# Altium schematic symbol library Super_Hornet.SchLib: 120 symbols (part 1 of 5)
Pins are listed as number, name and electrical type; pins without a type are passive.

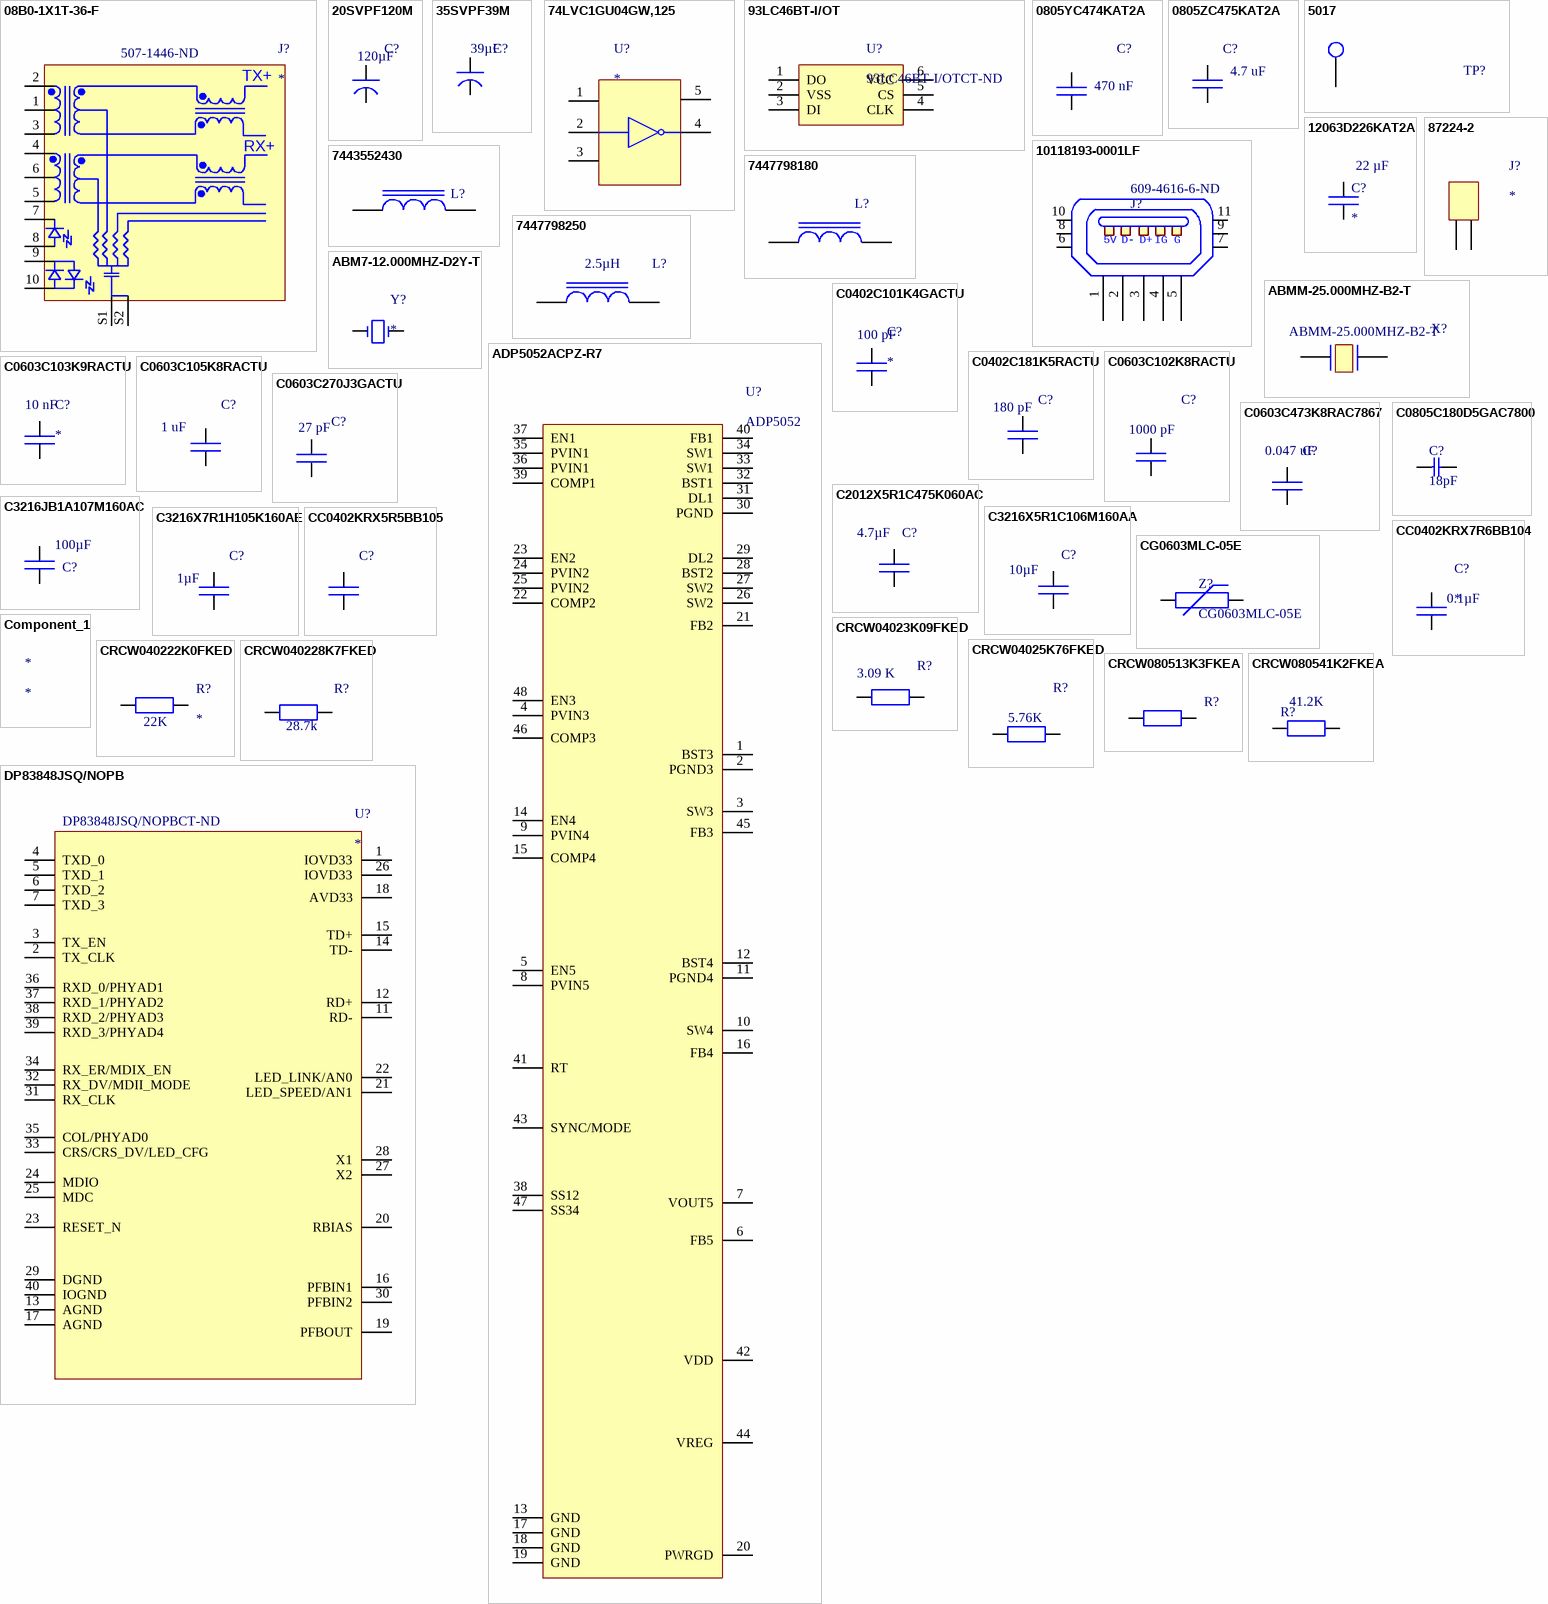
[diagram p0: symbols 08B0-1X1T-36-F to DP83848JSQ/NOPB]

## 08B0-1X1T-36-F
designator J?  Supplier Part Number 1: 507-1446-ND
RJ45 Magjack Connector Through Hole 10/100 Base-T; Manufacturer: Bel; Manufacturer Part Number: 08B0-1X1T-36-F; Product Training Modules: MagJack® Integrated Magnetics Modular Jacks; Catalog Drawings: MagJack ICM; Featured Product: Bel - MagJack Integrated Connector Modules Connectivity Solutions Magnetics Solutions; Number of Ports: 1; LED Color: Green, Orange - Yellow; Number of Cores per Jack: 4; Shielding: Shielded, EMI Finger; Tab Direction: Up; Shield Material: Copper Alloy; Online Catalog: MagJack® Series; Other Names: 08B01X1T36-F  08B01X1T36F  507-1446; Supplier 1: Digi-Key; Stock 1: 3128; Pricing 1: 1=4.88, 10=4.68, 25=4.29, 50=4.095, 100=3.9, 250=3.4125, 500=3.315, 1000=2.8275, 2500=2.6325 (USD); Standard Package: 60; Category: Connectors, Interconnects; Family: Modular Connectors - Jacks With Magnetics; Series: MagJack®; Packaging: Tray; Connector Type: RJ45; Number of Rows: 1; Applications: 10/100 Base-T, AutoMDIX; Mounting Type: Through Hole; Orientation: 90° Angle (Right); Termination: Solder; Height Above Board: 0.531" (13.50mm); Features: Board Guide; Contact Material: -; Contact Finish: Gold; Contact Finish Thickness: 15µin (0.38µm); Housing Material: Polybutylene Terephthalate (PBT); Operating Temperature: -40°C ~ 85°C; ComponentLink1URL: https://www.belfuse.com/resources/ICMs/ICMs Drawings/08B0-1X1T-36-F.pdf?src-supplier=Digi-Key; ComponentLink1Description: https://www.belfuse.com/resources/ICMs/ICMs Drawings/08B0-1X1T-36-F.pdf?src-supplier=Digi-Key; ComponentLink2URL: http://www.belfuse.com/Data/Datasheets/08B0-1X1T-36-F.pdf?src-supplier=Avnet; ComponentLink2Description: http://www.belfuse.com/Data/Datasheets/08B0-1X1T-36-F.pdf?src-supplier=Avnet; ComponentLink3URL: http://www.produktinfo.conrad.com/datenblaetter/1100000-1199999/001196182-da-01-en-MAGJACK_1XRJ45_MIT_LEDS.pdf?src-supplier=Conrad; ComponentLink3Description: http://www.produktinfo.conrad.com/datenblaetter/1100000-1199999/001196182-da-01-en-MAGJACK_1XRJ45_MIT_LEDS.pdf?src-supplier=Conrad
footprint RJ45
pins: 1, 2, 3, 4, 5, 6, 7, 8, 9, 10, S1, S2
text: TX+; RX+

## 20SVPF120M
designator C?  Capacitance: 120µF  (hidden comment: *)
CAP ALUM POLY 120UF 20% 20V SMD; Manufacturer: Panasonic; Manufacturer Part Number: 20SVPF120M; Featured Product: OS-CON Capacitors Hot New Technologies; EDA / CAD Models: Download from Accelerated Designs; ESR (Equivalent Series Resistance): 25 mOhm; Lifetime @ Temp.: 5000 Hrs @ 105°C; Polarization: Polar; Ripple Current: 3.2A; Surface Mount Land Size: 0.260" L x 0.260" W (6.60mm x 6.60mm); Online Catalog: OS-CON, SVPF Series; Other Names: P16498TR; Supplier 1: Digi-Key; Stock 1: 156; Pricing 1: 1=1.29, 10=1.022, 100=0.7662, 500=0.5789 (USD); Standard Package: 1,000; Category: Capacitors; Family: Aluminum - Polymer Capacitors; Series: OS-CON, SVPF; Packaging: Tape & Reel (TR); Tolerance: ±20%; Voltage Rating: 20V; Operating Temperature: -55°C ~ 105°C; Size / Dimension: 0.248" Dia (6.30mm); Height - Seated (Max): 0.236" (6.00mm); Mounting Type: Surface Mount; Package / Case: Radial, Can - SMD; ComponentLink1URL: http://industrial.panasonic.com/cdbs/www-data/pdf/AAB8000/AAB8000C177.pdf?src-supplier=Farnell; ComponentLink1Description: http://industrial.panasonic.com/cdbs/www-data/pdf/AAB8000/AAB8000C177.pdf?src-supplier=Farnell; ComponentLink2URL: http://www.alliedelec.com/images/products/datasheets/bm/Panasonic/70324301.pdf?src-supplier=Allied+Electronics; ComponentLink2Description: http://www.alliedelec.com/images/products/datasheets/bm/Panasonic/70324301.pdf?src-supplier=Allied+Electronics; ComponentLink3URL: http://www.farnell.com/datasheets/1734360.pdf?src-supplier=Element14; ComponentLink3Description: http://www.farnell.com/datasheets/1734360.pdf?src-supplier=Element14; Supplier Part Number 1: P16498CT-ND
footprint Radial C6
pins: 1, 2

## 35SVPF39M
designator C?  Capacitance: 39µF  (hidden comment: *)
CAP ALUM POLY 39UF 20% 35V SMD; Manufacturer: Panasonic; Manufacturer Part Number: 35SVPF39M; Featured Product: OS-CON Capacitors Hot New Technologies; EDA / CAD Models: Download from Accelerated Designs; ESR (Equivalent Series Resistance): 30 mOhm; Lifetime @ Temp.: 5000 Hrs @ 105°C; Polarization: Polar; Ripple Current: 2.8A; Surface Mount Land Size: 0.327" L x 0.327" W (8.30mm x 8.30mm); Online Catalog: OS-CON, SVPF Series; Other Names: P16561TR; Supplier 1: Digi-Key; Stock 1: 6908; Pricing 1: 1=1.51, 10=1.191, 100=0.8935, 500=0.6751 (USD); Standard Package: 1,000; Category: Capacitors; Family: Aluminum - Polymer Capacitors; Series: OS-CON, SVPF; Packaging: Tape & Reel (TR); Tolerance: ±20%; Voltage Rating: 35V; Operating Temperature: -55°C ~ 105°C; Size / Dimension: 0.315" Dia (8.00mm); Height - Seated (Max): 0.276" (7.00mm); Mounting Type: Surface Mount; Package / Case: Radial, Can - SMD; ComponentLink1URL: http://www.mouser.com/ds/2/315/AAB8000C177-947360.pdf?src-supplier=Mouser; ComponentLink1Description: http://www.mouser.com/ds/2/315/AAB8000C177-947360.pdf?src-supplier=Mouser; ComponentLink2URL: http://industrial.panasonic.com/cdbs/www-data/pdf/AAB8000/AAB8000C177.pdf?src-supplier=Element14; ComponentLink2Description: http://industrial.panasonic.com/cdbs/www-data/pdf/AAB8000/AAB8000C177.pdf?src-supplier=Element14; Supplier Part Number 1: P16561CT-ND
footprint Radial E7
pins: 1, 2

## 74LVC1GU04GW,125
designator U?
IC INVERTER 1CH 1-INP 5TSSOP; Manufacturer: Nexperia; Manufacturer Part Number: 74LVC1GU04GW,125; Supplier 1: Digi-Key; Stock 1: 67329; Pricing 1: 1=0.31, 10=0.25, 25=0.2092, 100=0.1324, 250=0.1022, 500=0.0871, 1000=0.0592 (USD); Supplier Part Number 1: 1727-4216-1-ND
footprint SOT-353
pins: 1, 2, 3, 4, 5

## 93LC46BT-I/OT
designator U?, comment 93LC46BT-I/OTCT-ND
IC EEPROM 1K SPI 2MHZ SOT23-6; Manufacturer: Microchip; Capacitance, Input: 7 pF; Current, Input, Leakage: ±1 μA; Current, Operating: 100 μA (Read), 500 μA (Write); Data Retention: <special id="6"/>special id="80"/>200; Interface: 3-Wire; Memory Capacity: 1 kbit; Memory Type: Serial EEPROM; Number of Bits per Word: 16 bit; Operating Voltage Range: 2.5 to 5.5 V; Organization: 64 x 16; Temperature, Operating: -40 to +85 °C; Temperature, Operating, Maximum: +85 °C; Temperature, Operating, Minimum: -40 °C; Time, Access: 100 ns; Type of Interface: Serial-Microwire; Voltage, ESD: ≥4 kV; Voltage, Input, High: 3.5 V; Voltage, Input, Low: 0.5 V; Voltage, Output, High: 2.3 V; Voltage, Output, Low: 0.2 V; Voltage, Programmable: 2.5 V; Supplier 1: Digi-Key; Manufacturer Part Number: 93LC46BT-I/OT; Stock 1: 2115; Pricing 1: 1=0.21, 100=0.1995 (USD); Capacitance, Output: 7 pF; Current, Output, Leakage: ±1 μA; Density: 1K; Dimensions: 3.10 x 1.80 x 1.30 mm; Height: 1.3 mm; Length: 3.1 mm; Mounting Type: Surface Mount; Number of Pins: 6; Package Type: SOT-23; Temperature, Operating, Range: -40 to +85 °C; Time, Address Setup: 100 ns; Voltage, Supply: 2.5 to 5.5 V; Width: 1.8 mm; ComponentLink1URL: http://www.microchip.com/mymicrochip/filehandler.aspx?ddocname=en550232&src-supplier=Digi-Key; ComponentLink1Description: http://www.microchip.com/mymicrochip/filehandler.aspx?ddocname=en550232&src-supplier=Digi-Key; ComponentLink2URL: http://www.farnell.com/datasheets/664718.pdf?src-supplier=Element14; ComponentLink2Description: http://www.farnell.com/datasheets/664718.pdf?src-supplier=Element14; ComponentLink3URL: http://ww1.microchip.com/downloads/en/DeviceDoc/21749J.pdf?src-supplier=Avnet; ComponentLink3Description: http://ww1.microchip.com/downloads/en/DeviceDoc/21749J.pdf?src-supplier=Avnet; ComponentLink4URL: https://www.distrelec.biz/Web/Downloads/_t/ds/93LC46_ABC_eng_tds.pdf?mime=application%2Fpdf&src-supplier=Distrelec; ComponentLink4Description: https://www.distrelec.biz/Web/Downloads/_t/ds/93LC46_ABC_eng_tds.pdf?mime=application%2Fpdf&src-supplier=Distrelec; ComponentLink5URL: http://www.microchip.com/mymicrochip/filehandler.aspx?ddocname=en550232&src-supplier=Future+Electronics; ComponentLink5Description: http://www.microchip.com/mymicrochip/filehandler.aspx?ddocname=en550232&src-supplier=Future+Electronics; ComponentLink6URL: http://www.produktinfo.conrad.com/datenblaetter/1000000-1099999/001085450-da-01-en-IC_EEPROM_1KB_93LC46BT_I_OT_SOT_23_6_MCP.pdf?src-supplier=Conrad; ComponentLink6Description: http://www.produktinfo.conrad.com/datenblaetter/1000000-1099999/001085450-da-01-en-IC_EEPROM_1KB_93LC46BT_I_OT_SOT_23_6_MCP.pdf?src-supplier=Conrad; Supplier Part Number 1: 93LC46BT-I/OTCT-ND
footprint SOT-23-6
pins: 1 DO, 2 VSS, 3 DI, 4 CLK, 5 CS, 6 VCC

## 0805YC474KAT2A
designator C?  Capacitance: 470 nF  (hidden comment: *)
CAP CER 0.47UF 16V X7R 0805; Manufacturer: Kyocera AVX; Manufacturer Part Number: 0805YC474KAT2A; Tolerance (%): ±10 %; Supplier 1: Digi-Key; Stock 1: 203194; Pricing 1: 1=0.25, 10=0.173, 50=0.104, 100=0.0878, 500=0.0601, 1000=0.0531 (USD); Case Size/Dimension: 0805; Dielectric: X7R; Rated Voltage: 16 V; ComponentLink1URL: http://uk.rs-online.com/webdocs/0ed4/0900766b80ed4be2.pdf?src-supplier=RSComponents; ComponentLink1Description: http://uk.rs-online.com/webdocs/0ed4/0900766b80ed4be2.pdf?src-supplier=RSComponents; ComponentLink2URL: http://www.mouser.com/ds/2/40/X7RDielectric-777024.pdf?src-supplier=Mouser; ComponentLink2Description: http://www.mouser.com/ds/2/40/X7RDielectric-777024.pdf?src-supplier=Mouser; ComponentLink3URL: https://www.alliedelec.com/m/d/a24bb5190bea413b2ff164816f55e87c.pdf?src-supplier=Allied+Electronics; ComponentLink3Description: https://www.alliedelec.com/m/d/a24bb5190bea413b2ff164816f55e87c.pdf?src-supplier=Allied+Electronics; ComponentLink4URL: http://www.avx.com/docs/Catalogs/cx7r.pdf?src-supplier=Future+Electronics; ComponentLink4Description: http://www.avx.com/docs/Catalogs/cx7r.pdf?src-supplier=Future+Electronics; ComponentLink5URL: http://www.jameco.com/Jameco/Products/ProdDS/2011221.pdf?src-supplier=Jameco; ComponentLink5Description: http://www.jameco.com/Jameco/Products/ProdDS/2011221.pdf?src-supplier=Jameco; ComponentLink6URL: http://www.avx.com/docs/catalogs/cx7r.pdf?src-supplier=Avnet+Europe; ComponentLink6Description: http://www.avx.com/docs/catalogs/cx7r.pdf?src-supplier=Avnet+Europe; ComponentLink7URL: http://www.avx.com/docs/catalogs/cx7r.pdf?src-supplier=Avnet; ComponentLink7Description: http://www.avx.com/docs/catalogs/cx7r.pdf?src-supplier=Avnet; ComponentLink8URL: http://catalogs.avx.com/SurfaceMount.pdf?src-supplier=Digi-Key; ComponentLink8Description: http://catalogs.avx.com/SurfaceMount.pdf?src-supplier=Digi-Key; ComponentLink9URL: http://datasheets.avx.com/AutoMLCC.pdf?src-supplier=Avnet+Asia; ComponentLink9Description: http://datasheets.avx.com/AutoMLCC.pdf?src-supplier=Avnet+Asia; ComponentLink10URL: http://datasheets.avx.com/X7RDielectric.pdf?src-supplier=Digi-Key; ComponentLink10Description: http://datasheets.avx.com/X7RDielectric.pdf?src-supplier=Digi-Key; ComponentLink11URL: http://avx.com/docs/Catalogs/cx7r.pdf?src-supplier=Element14; ComponentLink11Description: http://avx.com/docs/Catalogs/cx7r.pdf?src-supplier=Element14; Supplier Part Number 1: 478-1403-1-ND
footprint C0805_1
pins: 1, 2

## 0805ZC475KAT2A
designator C?  Capacitance: 4.7 uF  (hidden comment: *)
CAP CER 4.7UF 10V X7R 0805; Manufacturer: Kyocera AVX; Manufacturer Part Number: 0805ZC475KAT2A; Brand: AVX; Case Height: 1.52 mm; Case Length: 2.01 mm; Case Width: 1.25 mm; Dissipation Factor DF: 5; Tolerance: 10 %; Temperature Coefficient / Code: +/- 15 %; Type: Standard X7R MLCCs; Supplier 1: Digi-Key; Stock 1: 60000; Pricing 1: 1=0.61, 10=0.433, 100=0.2852, 500=0.2113, 1000=0.1796 (USD); Case Code - mm: 2012; Dimensions: 1.25 mm W x 2.01 mm L x 1.52 mm H; Dielectric: X7R; Minimum Operating Temperature: - 55 C; Maximum Operating Temperature: + 125 C; Factory Pack Quantity: 3000; Voltage Rating: 10 V; Product Category: Multilayer Ceramic Capacitors MLCC - SMD/SMT; RoHS: Details; Voltage Rating DC: 10 V; Product: General Type MLCCs; Operating Temperature Range: - 55 C to + 125 C; Package / Case: 0805 (2012 metric); Packaging: Reel; Termination Style: SMD/SMT; ComponentLink1URL: http://www.farnell.com/datasheets/2237835.pdf?src-supplier=Element14; ComponentLink1Description: http://www.farnell.com/datasheets/2237835.pdf?src-supplier=Element14; ComponentLink2URL: http://www.mouser.com/ds/2/40/X7RDielectric-777024.pdf?src-supplier=Mouser; ComponentLink2Description: http://www.mouser.com/ds/2/40/X7RDielectric-777024.pdf?src-supplier=Mouser; ComponentLink3URL: http://www.avx.com/docs/catalogs/cx7r.pdf?src-supplier=Avnet; ComponentLink3Description: http://www.avx.com/docs/catalogs/cx7r.pdf?src-supplier=Avnet; ComponentLink4URL: http://avx.com/docs/Catalogs/cx7r.pdf?src-supplier=Element14; ComponentLink4Description: http://avx.com/docs/Catalogs/cx7r.pdf?src-supplier=Element14; ComponentLink5URL: http://www.avx.com/docs/Catalogs/cx7r.pdf?src-supplier=Future+Electronics; ComponentLink5Description: http://www.avx.com/docs/Catalogs/cx7r.pdf?src-supplier=Future+Electronics; ComponentLink6URL: http://datasheets.avx.com/X7RDielectric.pdf?src-supplier=Digi-Key; ComponentLink6Description: http://datasheets.avx.com/X7RDielectric.pdf?src-supplier=Digi-Key; Supplier Part Number 1: 478-7964-6-ND; Case Code - in: 0805
footprint C0805
pins: 1, 2

## 5017
designator TP?  (value not drawn)
PCB MINI TEST POINT; Manufacturer: Keystone Electronics; Manufacturer Part Number: 5017; Minimum Quantity: PC Test Point, Miniature; Dynamic Catalog: Surface Mount Test Points; Featured Product: 5019 Miniature Surface Mount Test Point; Other Names: 5017-ND / 5017KTR / Q5021014; Supplier 1: Digi-Key; Stock 1: 285000; Pricing 1: 5000=0.0924 (USD); Quantity Available: Tape & Reel (TR)Alternate Packaging; RoHS Information: RoHS Compliance Statement; Standard Package: 5,000; Category: Test and Measurement; Family: Test Points; Packaging: Tape & Reel (TR); Type: PC Test Point, Miniature; Terminal: 0.010" (0.25mm) Phosphor Bronze, Silver Plated; Mounting Type: Surface Mount; Material: Phosphor Bronze; Online Catalog: Surface Mount Test Points; ComponentLink1URL: http://www.keyelco.com/product-pdf.cfm?p=1355&src-supplier=Digi-Key; ComponentLink1Description: http://www.keyelco.com/product-pdf.cfm?p=1355&src-supplier=Digi-Key; Supplier Part Number 1: 36-5017TR-NDL
footprint TEST_POINT
pins: 1

## 12063D226KAT2A
designator C?  Capacitance: 22 µF
CAP CER 22UF 25V X5R 1206; Manufacturer: Kyocera AVX; Manufacturer Part Number: 12063D226KAT2A; Tolerance (%): ±10 %; Supplier 1: Digi-Key; Stock 1: 100747; Pricing 1: 1=1.15, 10=0.909, 100=0.6814, 500=0.5148, 1000=0.4543 (USD); Case Size/Dimension: 1206; Dielectric: X5R; Rated Voltage: 25 V; ComponentLink1URL: http://www.avx.com/docs/Catalogs/cx5r.pdf?src-supplier=Future+Electronics; ComponentLink1Description: http://www.avx.com/docs/Catalogs/cx5r.pdf?src-supplier=Future+Electronics; Supplier Part Number 1: 478-9946-1-ND
footprint C1206
pins: 1, 2

## 87224-2
designator J?
CONN HEADER VERT 2POS 2.54MM; Manufacturer: TE Connectivity; Manufacturer Part Number: 87224-2; Catalog Drawings: Single Square Straight Post / Single Square Straight Post Side; Featured Product: AMPMODU Connectors; 3D Model: 87224-2.pdf; Connector Type: Header, Unshrouded; Number of Positions: 2; Number of Positions Loaded: All; Pitch: 0.100" (2.54mm); Dynamic Catalog: AMPMODU Mod II Series; Mating Products: A26921-ND / - CONN HOUSING 2POS .100 LOCKING / A26963-ND / - CONN HOUSING 2POS .100 SINGLE / A3011-ND / - CONN HOUSING 2POS .100 SINGLE; Other Names: 87224-2-ND / A26543; Supplier 1: Digi-Key; Stock 1: 17290; Pricing 1: 1=1.01, 10=0.886, 100=0.7644, 500=0.6254, 1000=0.5559, 5000=0.4864, 10000=0.4621 (USD); RoHS Information: 87224-2 Statement of Compliance; Standard Package: 500; Category: Connectors, Interconnects; Family: Rectangular Connectors - Headers, Male Pins; Series: AMPMODU Mod II; Contact Type: Male Pin; Number of Rows: 1; Contact Mating Length: 0.318" (8.08mm); Mounting Type: Through Hole; Termination: Solder; Contact Finish: Gold; Contact Finish Thickness: 15µin (0.38µm); Color: Black; Packaging: Bulk; ComponentLink1URL: http://www1.futureelectronics.com/doc/TYCO%20ELECTRONICS/87224-2.pdf?src-supplier=Future+Electronics; ComponentLink1Description: http://www1.futureelectronics.com/doc/TYCO%20ELECTRONICS/87224-2.pdf?src-supplier=Future+Electronics; ComponentLink2URL: http://www.te.com/commerce/DocumentDelivery/DDEController?Action=srchrtrv&DocNm=1307819_AMPMODU&DocType=DS&DocLang=English&s_cid=1046&src-supplier=Avnet; ComponentLink2Description: http://www.te.com/commerce/DocumentDelivery/DDEController?Action=srchrtrv&DocNm=1307819_AMPMODU&DocType=DS&DocLang=English&s_cid=1046&src-supplier=Avnet; ComponentLink3URL: http://www.jameco.com/Jameco/Products/ProdDS/1934518.pdf?src-supplier=Jameco; ComponentLink3Description: http://www.jameco.com/Jameco/Products/ProdDS/1934518.pdf?src-supplier=Jameco; ComponentLink4URL: http://www.tycoelectronics.com/commerce/DocumentDelivery/DDEController?Action=srchrtrv&DocNm=1307819_SECTION_5&DocType=Catalog+Section&DocLang=English&src-supplier=Element14; ComponentLink4Description: http://www.tycoelectronics.com/commerce/DocumentDelivery/DDEController?Action=srchrtrv&DocNm=1307819_SECTION_5&DocType=Catalog+Section&DocLang=English&src-supplier=Element14; ComponentLink5URL: http://uk.rs-online.com/webdocs/0fa3/0900766b80fa3622.pdf?src-supplier=RSComponents; ComponentLink5Description: http://uk.rs-online.com/webdocs/0fa3/0900766b80fa3622.pdf?src-supplier=RSComponents; ComponentLink6URL: https://www.te.com/commerce/DocumentDelivery/DDEController?Action=srchrtrv&DocNm=87224&DocType=Customer+Drawing&DocLang=English&src-supplier=Digi-Key; ComponentLink6Description: https://www.te.com/commerce/DocumentDelivery/DDEController?Action=srchrtrv&DocNm=87224&DocType=Customer+Drawing&DocLang=English&src-supplier=Digi-Key; ComponentLink7URL: https://www.alliedelec.com/m/d/7f3d665b792b1bf5eb695b1e5eb12d29.pdf?src-supplier=Allied+Electronics; ComponentLink7Description: https://www.alliedelec.com/m/d/7f3d665b792b1bf5eb695b1e5eb12d29.pdf?src-supplier=Allied+Electronics; Supplier Part Number 1: A26543-ND
footprint HDR_MALE_1x2_2.54mm
pins: 1, 2

## 10118193-0001LF
designator J?  Supplier Part Number 1: 609-4616-6-ND  (hidden comment: *)
CONN USB MICRO B RECPT SMT R/A; Manufacturer: Amphenol FCI; Manufacturer Part Number: 10118193-0001LF; Number of Contacts: 5 Contact; Gender: Female; Current Rating: 1.8 A; Brand: FCI; Connector Type: Micro USB Type B receptacle; Insulation Resistance: 1000 MOhms; Mounting Angle: Right; Supplier 1: Digi-Key; Stock 1: 63390; Pricing 1: 1=0.43, 10=0.405, 25=0.3648, 50=0.3242, 100=0.3107, 250=0.2837, 500=0.2702 (USD); Product Category: USB Connectors; RoHS: Details; Product: Micro USB Type B Connectors; Standard: USB 2.0; Termination Style: SMD/SMT; Color: Black; Contact Material: Copper Alloy; Contact Plating: Gold; Flammability Rating: UL 94 V-0; Operating Temperature Range: - 55 C to + 85 C; Packaging: Reel; Factory Pack Quantity: 1200; ComponentLink1URL: https://cdn.amphenol-icc.com/media/wysiwyg/files/documentation/datasheet/inputoutput/io_usb_micro.pdf?src-supplier=Digi-Key; ComponentLink1Description: https://cdn.amphenol-icc.com/media/wysiwyg/files/documentation/datasheet/inputoutput/io_usb_micro.pdf?src-supplier=Digi-Key; ComponentLink2URL: https://cdn.amphenol-icc.com/media/wysiwyg/files/documentation/datasheet/inputoutput/io_usb_micro.pdf?src-supplier=Arrow; ComponentLink2Description: https://cdn.amphenol-icc.com/media/wysiwyg/files/documentation/datasheet/inputoutput/io_usb_micro.pdf?src-supplier=Arrow; ComponentLink3URL: http://www.amphenol-icc.com/media/wysiwyg/files/drawing/10118193.pdf?src-supplier=Digi-Key; ComponentLink3Description: http://www.amphenol-icc.com/media/wysiwyg/files/drawing/10118193.pdf?src-supplier=Digi-Key; ComponentLink4URL: https://cdn.amphenol-icc.com/media/wysiwyg/files/documentation/datasheet/inputoutput/io_usb_micro.pdf?src-supplier=Verical; ComponentLink4Description: https://cdn.amphenol-icc.com/media/wysiwyg/files/documentation/datasheet/inputoutput/io_usb_micro.pdf?src-supplier=Verical; ComponentLink5URL: https://cdn.amphenol-icc.com/media/wysiwyg/files/documentation/datasheet/inputoutput/io_usb_micro.pdf?src-supplier=Allied+Electronics; ComponentLink5Description: https://cdn.amphenol-icc.com/media/wysiwyg/files/documentation/datasheet/inputoutput/io_usb_micro.pdf?src-supplier=Allied+Electronics; ComponentLink6URL: https://cdn.amphenol-icc.com/media/wysiwyg/files/documentation/datasheet/inputoutput/io_usb_micro.pdf?src-supplier=Mouser; ComponentLink6Description: https://cdn.amphenol-icc.com/media/wysiwyg/files/documentation/datasheet/inputoutput/io_usb_micro.pdf?src-supplier=Mouser
footprint USB_MICRO - duplicate
pins: 1, 2, 3, 4, 5, 6, 7, 8, 9, 10, 11
text: 5V; D-; D+; IG; G

## 7443552430
designator L?  (value not drawn)
IND 4.3UH 8A 14.1 MOHM; Manufacturer: Wurth Electronics; Manufacturer Part Number: 7443552430; Catalog Drawings: 7443552 Series Top 7443552 Series Side 7443552 Series Bottom; Design Resources: Spice Model Library; Featured Product: Flat Wire High Current Inductors WE-HCI – SMD Flat Wire High Current Inductor; 3D Model: WE-HCI_1040_7443552.igs WE-HCI_1040_7443552.stp; Type: Wirewound; Inductance: 4.3µH; Tolerance: ±20%; Shielding: Shielded; Frequency - Self Resonant: 33MHz; Frequency - Test: 100kHz; Online Catalog: WE-HCI Series; Kits: 732-1921-ND / - KIT INDUCTOR HC/HCA SMALL SIZES; Related Products: 122-1853-ND / - IC SOC CORTEX-A9 ARTIX-7 225BGA / 122-1852-ND / - IC SOC CORTEX-A9 ARTIX-7 400BGA / 122-1963-ND / - IC SOC CORTEX-A9 ARTIX-7 400BGA / 122-1855-ND / - IC SOC CORTEX-A9 ARTIX-7 225BGA / 122-1854-ND / - IC SOC CORTEX-A9 ARTIX-7 400BGA / 497-8821-2-ND / - IC REG BUCK ADJ 4A SYNC 16HTSSOP / 497-8821-1-ND / - IC REG BUCK ADJ 4A SYNC 16HTSSOP / 497-8821-6-ND / - IC REG BUCK ADJ 4A SYNC 16HTSSOP / L5989D-ND / - IC REG BUCK ADJ 4A SYNC 16HTSSOP / XC7Z010-1CLG225I-ND / - IC SOC CORTEX-A9 ARTIX-7 225BGA / XC7Z010-2CLG225E-ND / - IC SOC CORTEX-A9 ARTIX-7 225BGA / XC7Z010-2CLG400E-ND / - IC SOC CORTEX-A9 ARTIX-7 400BGA / XC7Z010-3CLG225E-ND / - IC SOC CORTEX-A9 ARTIX-7 225BGA / XC7Z010-3CLG400E-ND / - IC SOC CORTEX-A9 ARTIX-7 400BGA; Other Names: 732-1136-1; Supplier 1: Digi-Key; Stock 1: 1440; Pricing 1: 1=2.67, 10=2.621, 50=2.419, 100=2.318 (USD); Standard Package: 1; Category: Inductors, Coils, Chokes; Family: Fixed Inductors; Series: WE-HCI; Packaging: Cut Tape (CT); Current Rating: 8A; Current - Saturation: 8A; DC Resistance (DCR): 14.1 mOhm; Operating Temperature: -40°C ~ 155°C; Mounting Type: Surface Mount; Package / Case: Nonstandard; Size / Dimension: 0.413" L x 0.402" W (10.50mm x 10.20mm); Height - Seated (Max): 0.165" (4.20mm); ComponentLink1URL: https://katalog.we-online.de/pbs/datasheet/7443552430.pdf?src-supplier=Digi-Key; ComponentLink1Description: https://katalog.we-online.de/pbs/datasheet/7443552430.pdf?src-supplier=Digi-Key; ComponentLink2URL: http://documents.rs-components.com/techlib://itc_doclist_GB.htm?stockno=7362080&src-supplier=RSComponents; ComponentLink2Description: http://documents.rs-components.com/techlib://itc_doclist_GB.htm?stockno=7362080&src-supplier=RSComponents; ComponentLink3URL: http://www.farnell.com/datasheets/1735722.pdf?src-supplier=Element14; ComponentLink3Description: http://www.farnell.com/datasheets/1735722.pdf?src-supplier=Element14; ComponentLink4URL: https://www.distrelec.biz/Web/Downloads/a_/de/np7443552430_data_DE.pdf?mime=application%2Fpdf&src-supplier=Distrelec; ComponentLink4Description: https://www.distrelec.biz/Web/Downloads/a_/de/np7443552430_data_DE.pdf?mime=application%2Fpdf&src-supplier=Distrelec; ComponentLink5URL: http://www.mouser.com/ds/2/445/7443552430-538587.pdf?src-supplier=Mouser; ComponentLink5Description: http://www.mouser.com/ds/2/445/7443552430-538587.pdf?src-supplier=Mouser; Supplier Part Number 1: 732-1136-1-ND
footprint 14.3uH_10_2mmX10_2mmX4mm
pins: 1, 2

## 7447798180
designator L?
IND 1.8UH 14.5A 4.5MOHM; Manufacturer: Wurth Electronics; Manufacturer Part Number: 7447798180; Product Training Modules: High Current Inductors with Flatwire Technology for Low Wire Losses; Catalog Drawings: 744779 Series Bottom 744779 Series Top 744779 Series_6.4mm Height-Side; Design Resources: Spice Model Library; 3D Model: 7447798zzz.igs 7447798zzz.stp; Type: Wirewound; Material - Core: Metal Composite; Inductance: 1.8µH; Tolerance: ±30%; Current - Saturation: 12.8A; Shielding: Shielded; DC Resistance (DCR): 4.5 mOhm Max; Frequency - Self Resonant: 74MHz; Frequency - Test: 100kHz; Related Products: MAX15303AA00+TCM-ND / - IC REG BUCK ADJ 6A SYNC 40TQFN / MAX15303AA00+CM-ND / - IC REG BUCK ADJ 6A SYNC 40TQFN; Other Names: 732-2413-2; Supplier 1: Digi-Key; Stock 1: 500; Pricing 1: 1=3.34, 10=3.086, 50=2.979, 100=2.873, 250=2.554 (USD); Standard Package: 500; Category: Inductors, Coils, Chokes; Family: Fixed Inductors; Series: WE-PDF; Packaging: Tape & Reel (TR); Current Rating: 14.5A; Operating Temperature: -40°C ~ 150°C; Mounting Type: Surface Mount; Package / Case: Nonstandard; Size / Dimension: 0.402" L x 0.402" W (10.20mm x 10.20mm); Height - Seated (Max): 0.252" (6.40mm); ComponentLink1URL: http://www.mouser.com/ds/2/445/7447798180-539039.pdf?src-supplier=Mouser; ComponentLink1Description: http://www.mouser.com/ds/2/445/7447798180-539039.pdf?src-supplier=Mouser; ComponentLink2URL: http://www.farnell.com/datasheets/1736562.pdf?src-supplier=Farnell; ComponentLink2Description: http://www.farnell.com/datasheets/1736562.pdf?src-supplier=Farnell; ComponentLink3URL: http://katalog.we-online.de/pbs/datasheet/7447798180.pdf?src-supplier=Digi-Key; ComponentLink3Description: http://katalog.we-online.de/pbs/datasheet/7447798180.pdf?src-supplier=Digi-Key; ComponentLink4URL: http://www.farnell.com/datasheets/1736562.pdf?src-supplier=Element14; ComponentLink4Description: http://www.farnell.com/datasheets/1736562.pdf?src-supplier=Element14; Supplier Part Number 1: 732-2413-1-ND
footprint 1.8UH_10_2MMX10_2MM
pins: 1, 2

## 7447798250
designator L?  Inductance: 2.5µH  (hidden comment: *)
IND 2.5UH 13.7A 4.95 MOHM; Manufacturer: Wurth Electronics; Manufacturer Part Number: 7447798250; Product Training Modules: High Current Inductors with Flatwire Technology for Low Wire Losses; Catalog Drawings: 744779 Series Bottom 744779 Series Top 744779 Series_6.4mm Height-Side; Design Resources: Spice Model Library; 3D Model: 7447798zzz.igs 7447798zzz.stp; Type: Wirewound; Material - Core: Metal Composite; Tolerance: ±30%; Current - Saturation: 10.1A; Shielding: Shielded; DC Resistance (DCR): 4.95 mOhm Max; Frequency - Self Resonant: 57MHz; Frequency - Test: 100kHz; Online Catalog: WE-PDF Series; Related Products: NCP3170ADR2GOSTR-ND / - IC REG BUCK ADJ 3A SYNC 8SOIC / NCP3170ADR2GOSCT-ND / - IC REG BUCK ADJ 3A SYNC 8SOIC / NCP3170ADR2GOSDKR-ND / - IC REG BUCK ADJ 3A SYNC 8SOIC / NCP3170BDR2GOSTR-ND / - IC REG BUCK ADJ 3A SYNC 8SOIC / NCP3170BDR2GOSCT-ND / - IC REG BUCK ADJ 3A SYNC 8SOIC / NCP3170BDR2GOSDKR-ND / - IC REG BUCK ADJ 3A SYNC 8SOIC; Other Names: 732-2418-6; Supplier 1: Digi-Key; Stock 1: 78; Pricing 1: 1=3.34, 10=3.086, 50=2.979, 100=2.873, 250=2.554 (USD); Standard Package: 1; Category: Inductors, Coils, Chokes; Family: Fixed Inductors; Series: WE-PDF; Packaging: Digi-Reel®; Current Rating: 13.7A; Operating Temperature: -40°C ~ 150°C; Mounting Type: Surface Mount; Package / Case: Nonstandard; Size / Dimension: 0.402" L x 0.402" W (10.20mm x 10.20mm); Height - Seated (Max): 0.252" (6.40mm); ComponentLink1URL: https://katalog.we-online.de/pbs/datasheet/7447798250.pdf?src-supplier=Digi-Key; ComponentLink1Description: https://katalog.we-online.de/pbs/datasheet/7447798250.pdf?src-supplier=Digi-Key; ComponentLink2URL: http://katalog.we-online.de/pbs/datasheet/7447798250.pdf?src-supplier=Digi-Key; ComponentLink2Description: http://katalog.we-online.de/pbs/datasheet/7447798250.pdf?src-supplier=Digi-Key; ComponentLink3URL: http://www.mouser.com/ds/2/445/7447798250-539040.pdf?src-supplier=Mouser; ComponentLink3Description: http://www.mouser.com/ds/2/445/7447798250-539040.pdf?src-supplier=Mouser; ComponentLink4URL: http://documents.rs-components.com/techlib://itc_doclist_GB.htm?stockno=7444965&src-supplier=RSComponents; ComponentLink4Description: http://documents.rs-components.com/techlib://itc_doclist_GB.htm?stockno=7444965&src-supplier=RSComponents; ComponentLink5URL: http://www.farnell.com/datasheets/1915042.pdf?src-supplier=Farnell; ComponentLink5Description: http://www.farnell.com/datasheets/1915042.pdf?src-supplier=Farnell; Supplier Part Number 1: 732-2418-1-ND
footprint 2.5UH_10_2MMX10_2MM
pins: 1, 2

## ABM7-12.000MHZ-D2Y-T
designator Y?
CRYSTAL 12.0000MHZ 18PF SMD; Manufacturer: Abracon; Manufacturer Part Number: ABM7-12.000MHZ-D2Y-T; Standard Frequency: 12 MHz; Frequency Tolerance: ±20 ppm; Frequency Stability: ±30 ppm; Series Resistance: 60 Ohm; Frequency Aging: ±5 ppm/Year; Mode of Oscillation: Fundamental; Rad Hard: No; Supplier 1: Digi-Key; Stock 1: 71692; Pricing 1: 1=1, 10=0.886, 50=0.8278, 100=0.7315, 500=0.693 (USD); Package: 2CSMD; Packaging: Tape & Reel; Load Capacitance: 18 pF; Type: Crystal; Maximum Operating Temperature: 85 °C; Minimum Operating Temperature: -40 °C; Mounting: Surface Mount; Category: Crystals; ComponentLink1URL: http://www.farnell.com/datasheets/947971.pdf?src-supplier=Element14; ComponentLink1Description: http://www.farnell.com/datasheets/947971.pdf?src-supplier=Element14; ComponentLink2URL: http://www.mouser.com/ds/2/3/abm7-19096.pdf?src-supplier=Mouser; ComponentLink2Description: http://www.mouser.com/ds/2/3/abm7-19096.pdf?src-supplier=Mouser; ComponentLink3URL: https://www.verical.com/server-webapp/html/getDatasheet?partID=728583&src-supplier=Verical; ComponentLink3Description: https://www.verical.com/server-webapp/html/getDatasheet?partID=728583&src-supplier=Verical; ComponentLink4URL: https://abracon.com/Resonators/abm7.pdf?src-supplier=Digi-Key; ComponentLink4Description: https://abracon.com/Resonators/abm7.pdf?src-supplier=Digi-Key; Supplier Part Number 1: 535-9836-1-ND
footprint ABM7_Crystal
pins: 1, 2

## ABMM-25.000MHZ-B2-T
designator X?  Manufacturer Part Number: ABMM-25.000MHZ-B2-T  (hidden comment: *)
CRYSTAL 25MHZ; Manufacturer: Abracon; Case Height: 1.3 mm; Case Length: 7 mm; Case Width: 5 mm; ESR: 40 Ohms; Frequency Stability: 50 PPM; Load Capacitance: 18 pF; Tolerance: 20 PPM; Supplier 1: Digi-Key; Stock 1: 6735; Pricing 1: 1=0.92, 10=0.81, 50=0.7568, 100=0.6688, 500=0.6336 (USD); Brand: ABRACON; Dimensions: 5 mm W x 7 mm L x 1.3 mm H; Frequency: 25 MHz; Package / Case: 7 mm x 5 mm; Operating Temperature Range: - 20 C to + 70 C; Mounting Style: SMD/SMT; Factory Pack Quantity: 1000; Product Category: Crystals; RoHS: Details; Termination Style: SMD/SMT; Packaging: Reel; Series: ABMM; Type: Ceramic Microprocessor Crystal; ComponentLink1URL: https://abracon.com/Resonators/ABMM.pdf?src-supplier=Digi-Key; ComponentLink1Description: https://abracon.com/Resonators/ABMM.pdf?src-supplier=Digi-Key; ComponentLink2URL: http://www.farnell.com/datasheets/1750519.pdf?src-supplier=Element14; ComponentLink2Description: http://www.farnell.com/datasheets/1750519.pdf?src-supplier=Element14; ComponentLink3URL: http://www.mouser.com/ds/2/3/ABMM-40073.pdf?src-supplier=Mouser; ComponentLink3Description: http://www.mouser.com/ds/2/3/ABMM-40073.pdf?src-supplier=Mouser; Supplier Part Number 1: 535-9161-1-ND
footprint CRYSTAL
pins: 1, 3

## ADP5052ACPZ-R7
designator U?, comment ADP5052
PMIC 4BUCK_1LDO; Manufacturer: Analog Devices; Manufacturer Part Number: ADP5052ACPZ-R7; Minimum Quantity: Step-Down (Buck) Synchronous (5), Linear (LDO) (1); Dynamic Catalog: Linear + Switching; Featured Product: 2nd Quarter Select Products; PCN Design/Specification: ADP5050/ADP5052 Die Revision 06/Jan/2014; PCN Assembly/Origin: Assembly and Test Transfer LFCSP Devices 22/Oct/2013 / Assembly/Test Site Revision D 06/Aug/2014; Topology: Step-Down (Buck) Synchronous (4), Linear (LDO) (1); Function: Any Function; Number of Outputs: 5; Frequency - Switching: 740kHz; Voltage/Current - Output 1: 0.85 V ~ 1.6 V, PROG; Voltage/Current - Output 2: 3.3 V ~ 5 V, PROG; Voltage/Current - Output 3: 1.2 V ~ 1.8 V, 1.2A; w/LED Driver: No; Voltage - Supply: 4.5 V ~ 15 V; For Use With: ADP5052-EVALZ-ND / - EVAL BOARD BUCK REG/LDO ADP5052; Other Names: ADP5052ACPZ-R7CT; Resistor Element Type: Thick Film; Product Range: PANASONIC - ERJ Series; Resistance: 3.65kohm; Power Rating: 100mW; Resistance Tolerance: ± 1%; Resistor Case Style: 0402 [1005 Metric]; Temperature Coefficient: ± 100ppm/°C; Voltage Rating: 50V; SVHC: Diboron trioxide (19-Dec-2012); Resistor Mounting: SMD; Resistor Terminals: Wraparound; SVHC (Secondary): Lead monoxide (lead oxide) (19-Dec-2012); Supplier 1: Digi-Key; Stock 1: 0; Pricing 1: 1=8.54, 10=7.719, 25=7.3596, 100=6.103, 250=5.5645 (USD); Quantity Available: Cut Tape (CT)Alternate Packaging; Package/Case: 48-WFQFN Exposed Pad, CSP; Standard Package: 1; Category: Integrated Circuits (ICs); Family: PMIC - Voltage Regulators - Linear + Switching; Packaging: Cut Tape (CT); w/Supervisor: No; w/Sequencer: No; Operating Temperature: -40°C ~ 125°C; Mounting Type: Surface Mount; Package / Case: 48-WFQFN Exposed Pad, CSP; Supplier Device Package: 48-LFCSP-WQ (7x7); Online Catalog: Linear + Switching; ComponentLink1URL: http://www.mouser.com/ds/2/609/ADP5052-878958.pdf?src-supplier=Mouser; ComponentLink1Description: http://www.mouser.com/ds/2/609/ADP5052-878958.pdf?src-supplier=Mouser; ComponentLink2URL: http://uk.rs-online.com/webdocs/1492/0900766b81492551.pdf?src-supplier=RSComponents; ComponentLink2Description: http://uk.rs-online.com/webdocs/1492/0900766b81492551.pdf?src-supplier=RSComponents; ComponentLink3URL: http://www.analog.com/media/en/technical-documentation/data-sheets/ADP5052.PDF?src-supplier=Digi-Key; ComponentLink3Description: http://www.analog.com/media/en/technical-documentation/data-sheets/ADP5052.PDF?src-supplier=Digi-Key; ComponentLink4URL: http://www.analog.com/static/imported-files/data_sheets/ADP5052.PDF?src-supplier=Avnet; ComponentLink4Description: http://www.analog.com/static/imported-files/data_sheets/ADP5052.PDF?src-supplier=Avnet; ComponentLink5URL: https://www.analog.com/media/en/technical-documentation/data-sheets/ADP5052.PDF?src-supplier=Digi-Key; ComponentLink5Description: https://www.analog.com/media/en/technical-documentation/data-sheets/ADP5052.PDF?src-supplier=Digi-Key; ComponentLink6URL: http://www.produktinfo.conrad.com/datenblaetter/1200000-1299999/001251707-da-01-en-IC_REG_5OUT_ADP5052ACPZ_R7_LFCSP_48_ADI.pdf?src-supplier=Conrad; ComponentLink6Description: http://www.produktinfo.conrad.com/datenblaetter/1200000-1299999/001251707-da-01-en-IC_REG_5OUT_ADP5052ACPZ_R7_LFCSP_48_ADI.pdf?src-supplier=Conrad; Supplier Part Number 1: ADP5052ACPZ-R7CT-ND; Supplier 2: Digi-Key; Stock 2: 78045; Pricing 2: 1=0.1, 10=0.041, 100=0.0166, 1000=0.0075, 2500=0.0065, 5000=0.0054 (USD); Resistor Element Material: Thick Film; MSL: (Not Applicable); ComponentLink7URL: http://industrial.panasonic.com/www-data/pdf/AOA0000/AOA0000CE2.pdf?src-supplier=Avnet; ComponentLink7Description: http://industrial.panasonic.com/www-data/pdf/AOA0000/AOA0000CE2.pdf?src-supplier=Avnet; ComponentLink8URL: http://www.mouser.com/ds/2/315/AOA0000C283-1093288.pdf?src-supplier=Mouser; ComponentLink8Description: http://www.mouser.com/ds/2/315/AOA0000C283-1093288.pdf?src-supplier=Mouser; ComponentLink9URL: http://www.farnell.com/datasheets/1694929.pdf?src-supplier=Element14; ComponentLink9Description: http://www.farnell.com/datasheets/1694929.pdf?src-supplier=Element14; ComponentLink10URL: https://www.alliedelec.com/m/d/623f45ff1957d936ff56d46fd1c28cac.pdf?src-supplier=Allied+Electronics; ComponentLink10Description: https://www.alliedelec.com/m/d/623f45ff1957d936ff56d46fd1c28cac.pdf?src-supplier=Allied+Electronics; ComponentLink11URL: http://www.farnell.com/datasheets/1678782.pdf?src-supplier=Element14; ComponentLink11Description: http://www.farnell.com/datasheets/1678782.pdf?src-supplier=Element14; Supplier Part Number 2: P3.65KLCT-ND
footprint 48-LFSCP
pins: 1 BST3, 2 PGND3, 3 SW3, 4 PVIN3, 5 EN5, 6 FB5, 7 VOUT5, 8 PVIN5, 9 PVIN4, 10 SW4, 11 PGND4, 12 BST4, 13 GND, 14 EN4, 15 COMP4, 16 FB4, 17 GND, 18 GND, 19 GND, 20 PWRGD, 21 FB2, 22 COMP2, 23 EN2, 24 PVIN2, 25 PVIN2, 26 SW2, 27 SW2, 28 BST2, 29 DL2, 30 PGND, 31 DL1, 32 BST1, 33 SW1, 34 SW1, 35 PVIN1, 36 PVIN1, 37 EN1, 38 SS12, 39 COMP1, 40 FB1, 41 RT, 42 VDD, 43 SYNC/MODE, 44 VREG, 45 FB3, 46 COMP3, 47 SS34, 48 EN3

## C0402C101K4GACTU
designator C?  Capacitance: 100 pF
CAP CER 100PF 16V C0G/NP0 0402; Manufacturer: KEMET; Manufacturer Part Number: C0402C101K4GACTU; Part # Aliases: C0402C101K4GAC7867; Capacitance - nF: 0.1 nF; Case Height: 0.5 mm; Dielectric: C0G (NP0); Case Length: 1 mm; Class: Class 1; Dissipation Factor DF: 0.1; Tolerance: 10 %; Temperature Coefficient / Code: +/- 30 PPM / C; Type: SMD MLCC C0G 10 - 250 VDC Commercial Grade; Supplier 1: Digi-Key; Stock 1: 105221; Pricing 1: 1=0.1, 10=0.025, 100=0.0112, 500=0.008, 1000=0.0063, 2500=0.0057, 5000=0.0052 (USD); Brand: Kemet; Case Code - in: 0402; Case Code - mm: 1005; Dimensions: 0.5 mm W x 1 mm L x 0.5 mm H; Case Width: 0.5 mm; Lead Spacing: 0.3 mm; Factory Pack Quantity: 10000; Voltage Rating: 16 V; Product Category: Multilayer Ceramic Capacitors MLCC - SMD/SMT; RoHS: Details; Minimum Operating Temperature: - 55 C; Maximum Operating Temperature: + 125 C; Product: General Type MLCCs; Operating Temperature Range: - 55 C to + 125 C; Package / Case: 0402 (1005 metric); Packaging: Reel; Series: C0402C; Termination Style: SMD/SMT; Voltage Rating DC: 16 V; ComponentLink1URL: http://www.mouser.com/ds/2/212/KEM_C1003_C0G_SMD-1101588.pdf?src-supplier=Mouser; ComponentLink1Description: http://www.mouser.com/ds/2/212/KEM_C1003_C0G_SMD-1101588.pdf?src-supplier=Mouser; Supplier Part Number 1: 399-7749-1-ND
footprint R0402
pins: 1, 2

## C0402C181K5RACTU
designator C?  Capacitance: 180 pF  (hidden comment: *)
CAP CER 180PF 50V X7R 0402; Manufacturer: KEMET; Manufacturer Part Number: C0402C181K5RACTU; Part # Aliases: C0402C181K5RAC7867; Capacitance - nF: 0.18 nF; Case Height: 0.5 mm; Case Length: 1 mm; Class: Class 1; Dissipation Factor DF: 2.5; Tolerance: 10 %; Temperature Coefficient / Code: +/- 15 %; Type: SMD MLCC X7R 6.3 - 250 VDC Commerical Grade; Supplier 1: Digi-Key; Stock 1: 45526; Pricing 1: 1=0.1, 10=0.068, 100=0.0304, 500=0.0217, 1000=0.0171, 2500=0.0155, 5000=0.0143 (USD); Brand: Kemet; Case Code - in: 0402; Case Code - mm: 1005; Dimensions: 0.5 mm W x 1 mm L x 0.5 mm H; Dielectric: X7R; Case Width: 0.5 mm; Lead Spacing: 0.3 mm; Factory Pack Quantity: 10000; Voltage Rating: 50 V; Product Category: Multilayer Ceramic Capacitors MLCC - SMD/SMT; RoHS: Details; Minimum Operating Temperature: - 55 C; Maximum Operating Temperature: + 125 C; Product: General Type MLCCs; Operating Temperature Range: - 55 C to + 125 C; Package / Case: 0402 (1005 metric); Packaging: Reel; Series: C0402C; Termination Style: SMD/SMT; Voltage Rating DC: 50 V; ComponentLink1URL: http://www.farnell.com/datasheets/1807957.pdf?src-supplier=Element14; ComponentLink1Description: http://www.farnell.com/datasheets/1807957.pdf?src-supplier=Element14; ComponentLink2URL: http://www.farnell.com/datasheets/1851736.pdf?src-supplier=Element14; ComponentLink2Description: http://www.farnell.com/datasheets/1851736.pdf?src-supplier=Element14; Supplier Part Number 1: 399-15305-1-ND
footprint R0402
pins: 1, 2

## C0603C102K8RACTU
designator C?  Capacitance: 1000 pF  (hidden comment: *)
CAP CER 1000PF 10V X7R 0603; Manufacturer: KEMET; Manufacturer Part Number: C0603C102K8RACTU; Part # Aliases: C0603C102K8RAC7867; Capacitance - nF: 1 nF; Capacitance - uF: 0.001 uF; Case Height: 0.8 mm; Case Length: 1.6 mm; Class: Class 1; Dissipation Factor DF: 10; Tolerance: 10 %; Temperature Coefficient / Code: +/- 15 %; Type: SMD MLCC X7R 6.3 - 250 VDC Commerical Grade; Supplier 1: Digi-Key; Stock 1: 49712; Pricing 1: 1=0.21, 10=0.14, 100=0.0711, 500=0.0486, 1000=0.043 (USD); Brand: Kemet; Case Code - in: 0603; Case Code - mm: 1608; Dimensions: 0.8 mm W x 1.6 mm L x 0.8 mm H; Dielectric: X7R; Case Width: 0.8 mm; Factory Pack Quantity: 4000; Product Category: Multilayer Ceramic Capacitors MLCC - SMD/SMT; RoHS: Details; Minimum Operating Temperature: - 55 C; Maximum Operating Temperature: + 125 C; Product: General Type MLCCs; Lead Spacing: 0.7 mm; Operating Temperature Range: - 55 C to + 125 C; Package / Case: 0603 (1608 metric); Packaging: Reel; Series: C0603C; Termination Style: SMD/SMT; Voltage Rating: 10 V; Voltage Rating DC: 10 V; ComponentLink1URL: http://www.mouser.com/ds/2/212/KEM_C1002_X7R_SMD-1102033.pdf?src-supplier=Mouser; ComponentLink1Description: http://www.mouser.com/ds/2/212/KEM_C1002_X7R_SMD-1102033.pdf?src-supplier=Mouser; Supplier Part Number 1: 399-8984-1-ND
footprint C0603_1
pins: 1, 2

## C0603C103K9RACTU
designator C?  Capacitance - nF: 10 nF
CAP CER 10000PF 6.3V X7R 0603; Manufacturer: KEMET; Manufacturer Part Number: C0603C103K9RACTU; Part # Aliases: C0603C103K9RAC7867; Capacitance: 0.01 uF; Case Height: 0.8 mm; Case Length: 1.6 mm; Class: Class 1; Dissipation Factor DF: 5; Tolerance: 10 %; Temperature Coefficient / Code: +/- 15 %; Type: SMD MLCC X7R 6.3 - 250 VDC Commerical Grade; Supplier 1: Digi-Key; Stock 1: 36311; Pricing 1: 1=0.12, 10=0.083, 100=0.0391, 500=0.0274, 1000=0.0227 (USD); Brand: Kemet; Capacitance - pF: 10000 pF; Case Code - in: 0603; Case Code - mm: 1608; Dimensions: 0.8 mm W x 1.6 mm L x 0.8 mm H; Dielectric: X7R; Case Width: 0.8 mm; Factory Pack Quantity: 4000; Voltage Rating: 6.3 V; Product Category: Multilayer Ceramic Capacitors MLCC - SMD/SMT; RoHS: Details; Minimum Operating Temperature: - 55 C; Maximum Operating Temperature: + 125 C; Product: General Type MLCCs; Operating Temperature Range: - 55 C to + 125 C; Package / Case: 0603 (1608 metric); Packaging: Reel; Series: C0603C; Termination Style: SMD/SMT; Voltage Rating DC: 6.3 V; ComponentLink1URL: http://www.mouser.com/ds/2/212/KEM_C1002_X7R_SMD-1102033.pdf?src-supplier=Mouser; ComponentLink1Description: http://www.mouser.com/ds/2/212/KEM_C1002_X7R_SMD-1102033.pdf?src-supplier=Mouser; Supplier Part Number 1: 399-8988-1-ND
footprint C0603_1
pins: 1, 2

## C0603C105K8RACTU
designator C?  Capacitance: 1 uF  (hidden comment: *)
CAP CER 1UF 10V X7R 0603; Manufacturer: KEMET; Manufacturer Part Number: C0603C105K8RACTU; Part # Aliases: C0603C105K8RAC7867; Capacitance - nF: 1000 nF; Case Height: 0.8 mm; Case Length: 1.6 mm; Class: Class 1; Dissipation Factor DF: 5; Tolerance: 10 %; Temperature Coefficient / Code: +/- 15 %; Type: SMD MLCC X7R 6.3 - 250 VDC Commerical Grade; Supplier 1: Digi-Key; Stock 1: 413031; Pricing 1: 1=0.1, 10=0.064, 100=0.0285, 500=0.0204, 1000=0.016 (USD); Brand: Kemet; Case Code - in: 0603; Case Code - mm: 1608; Dimensions: 0.8 mm W x 1.6 mm L x 0.8 mm H; Dielectric: X7R; Case Width: 0.8 mm; Factory Pack Quantity: 4000; Voltage Rating: 10 V; Product Category: Multilayer Ceramic Capacitors MLCC - SMD/SMT; RoHS: Details; Voltage Rating DC: 10 V; Minimum Operating Temperature: - 55 C; Maximum Operating Temperature: + 125 C; Product: General Type MLCCs; Operating Temperature Range: - 55 C to + 125 C; Package / Case: 0603 (1608 metric); Packaging: Reel; Series: C0603C; Termination Style: SMD/SMT; ComponentLink1URL: https://www.verical.com/server-webapp/html/getDatasheet?partID=212378&src-supplier=Verical; ComponentLink1Description: https://www.verical.com/server-webapp/html/getDatasheet?partID=212378&src-supplier=Verical; Supplier Part Number 1: 399-11133-1-ND
footprint C0603_1
pins: 1, 2

## C0603C270J3GACTU
designator C?  Capacitance Value: 27 pF  (hidden comment: *)
CAP CER 27PF 25V C0G 0603; Manufacturer: KEMET; Manufacturer Part Number: C0603C270J3GACTU; Voltage: 25 Vdc; Tolerance: 5 %; Type: Flat; Product Length: 1.6 mm; Product Height: 0.8 mm; Supplier 1: Digi-Key; Stock 1: 50322; Pricing 1: 1=0.11, 10=0.078, 100=0.0347, 500=0.0248, 1000=0.0195 (USD); Package/Case: 0603; Mounting: Surface Mount; Dielectric: C0G; Operating Temperature: -55 to 125 °C; Category: Capacitor Ceramic Multilayer; ComponentLink1URL: http://www.mouser.com/ds/2/212/KEM_C1003_C0G_SMD-1101588.pdf?src-supplier=Mouser; ComponentLink1Description: http://www.mouser.com/ds/2/212/KEM_C1003_C0G_SMD-1101588.pdf?src-supplier=Mouser; ComponentLink2URL: http://www.farnell.com/datasheets/2626864.pdf?src-supplier=Farnell; ComponentLink2Description: http://www.farnell.com/datasheets/2626864.pdf?src-supplier=Farnell; ComponentLink3URL: http://www.farnell.com/datasheets/2626864.pdf?src-supplier=Newark; ComponentLink3Description: http://www.farnell.com/datasheets/2626864.pdf?src-supplier=Newark; ComponentLink4URL: http://components.arrow.com/part/dataview/29776731S98154N7429?src-supplier=Arrow; ComponentLink4Description: http://components.arrow.com/part/dataview/29776731S98154N7429?src-supplier=Arrow; ComponentLink5URL: https://search.kemet.com/component-edge/download/datasheet/C0603C270J3GACTU.pdf?src-supplier=Digi-Key; ComponentLink5Description: https://search.kemet.com/component-edge/download/datasheet/C0603C270J3GACTU.pdf?src-supplier=Digi-Key; ComponentLink6URL: https://api.kemet.com/component-edge/download/datasheet/C0603C270J3GACTU.pdf?src-supplier=Digi-Key; ComponentLink6Description: https://api.kemet.com/component-edge/download/datasheet/C0603C270J3GACTU.pdf?src-supplier=Digi-Key; Supplier Part Number 1: 399-9053-1-ND
footprint C0603_1
pins: 1, 2

## C0603C473K8RAC7867
designator C?  Capacitance Value: 0.047 uF  (hidden comment: *)
CAP CER 0.047UF 10V X7R 0603; Manufacturer: KEMET; Manufacturer Part Number: C0603C473K8RAC7867; Rad Hard: No; Product Depth: 0.8 mm; Voltage: 10 Vdc; Tolerance: 10 %; Product Length: 1.6 mm; Supplier 1: Digi-Key; Stock 1: 19838; Pricing 1: 1=0.17, 10=0.118, 100=0.0554, 500=0.0389, 1000=0.0322 (USD); Package/Case: 0603; Mounting: Surface Mount; Dielectric: X7R; Operating Temperature: -55 to 125 °C; Construction: Flat; Product Height: 0.8 mm; Category: Capacitor Ceramic Multilayer; ComponentLink1URL: https://api.kemet.com/component-edge/download/datasheet/C0603C473K8RACTU.pdf?src-supplier=Digi-Key; ComponentLink1Description: https://api.kemet.com/component-edge/download/datasheet/C0603C473K8RACTU.pdf?src-supplier=Digi-Key; ComponentLink2URL: http://capacitoredge.kemet.com/capedge2/DataSheet?pn=C0603C473K8RACTU&src-supplier=Avnet+Europe; ComponentLink2Description: http://capacitoredge.kemet.com/capedge2/DataSheet?pn=C0603C473K8RACTU&src-supplier=Avnet+Europe; ComponentLink3URL: http://components.arrow.com/part/dataview/0323_00323325?src-supplier=Arrow+Europe; ComponentLink3Description: http://components.arrow.com/part/dataview/0323_00323325?src-supplier=Arrow+Europe; Supplier Part Number 1: 399-14522-1-ND
footprint R0603
pins: 1, 2

## C0805C180D5GAC7800
designator C?, comment 18pF
CAP CER 18PF 50V NP0 0805; Manufacturer: KEMET; Manufacturer Part Number: C0805C180D5GAC7800; Supplier 1: Digi-Key; Stock 1: 3378; Pricing 1: 1=0.63, 10=0.442, 100=0.2911, 500=0.2156, 1000=0.1833 (USD); Supplier Part Number 1: 399-17432-1-ND
footprint C0805_1
pins: 1, 2

## C2012X5R1C475K060AC
designator C?  Capacitance: 4.7µF  (hidden comment: *)
CAP CER 4.7UF 16V X5R 0805; Manufacturer: TDK; Manufacturer Part Number: C2012X5R1C475K060AC; Product Training Modules: C Series General Applications SEAT, CCV, and TVCL Design Tools Guide to Replacing an Electrolytic Capacitor with an MLCC; EDA / CAD Models: Download from Accelerated Designs; Tolerance: ±10%; Online Catalog: C Series, General Purpose; Other Names: 445-14381-6; Supplier 1: Digi-Key; Stock 1: 30385; Pricing 1: 1=0.5, 10=0.348, 100=0.2087, 500=0.1565, 1000=0.1322 (USD); RoHS Information: RoHS Certificate-MLCC; Standard Package: 1; Category: Capacitors; Family: Ceramic Capacitors; Series: C; Packaging: Digi-Reel®; Voltage - Rated: 16V; Temperature Coefficient: X5R; Mounting Type: Surface Mount, MLCC; Operating Temperature: -55°C ~ 85°C; Applications: General Purpose; Package / Case: 0805 (2012 Metric); Size / Dimension: 0.079" L x 0.049" W (2.00mm x 1.25mm); Thickness (Max): 0.030" (0.75mm); ComponentLink1URL: https://product.tdk.com/en/products/common/pdf/mlcc_partnumber_description.pdf?src-supplier=Digi-Key; ComponentLink1Description: https://product.tdk.com/en/products/common/pdf/mlcc_partnumber_description.pdf?src-supplier=Digi-Key; ComponentLink2URL: https://product.tdk.com/info/en/catalog/spec/mlccspec_commercial_general_midvoltage_en.pdf?src-supplier=Digi-Key; ComponentLink2Description: https://product.tdk.com/info/en/catalog/spec/mlccspec_commercial_general_midvoltage_en.pdf?src-supplier=Digi-Key; Supplier Part Number 1: 445-14381-1-ND
footprint C0805_1
pins: 1, 2